# Altium schematic symbol library SWITCH.SchLib: 1 symbol
Pins are listed as number, name and electrical type; pins without a type are passive.

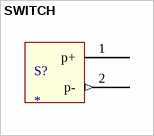
[diagram p0: symbol SWITCH]

## SWITCH
designator S?
footprint SWITCh
pins: 1 p+, 2 p- (out)